# Altium footprint library newComponent0729.PcbLib: 10 footprints
Each footprint in its own frame and in the unit in brackets; x right, y up, seen from the top. Pads: shape width x height; smd on the part's side, far side on the other; paste and mask are expansions set on the pad; w line width, h text height; cw(c..) or ccw(c..) is an arc to the next point about the centre after c.
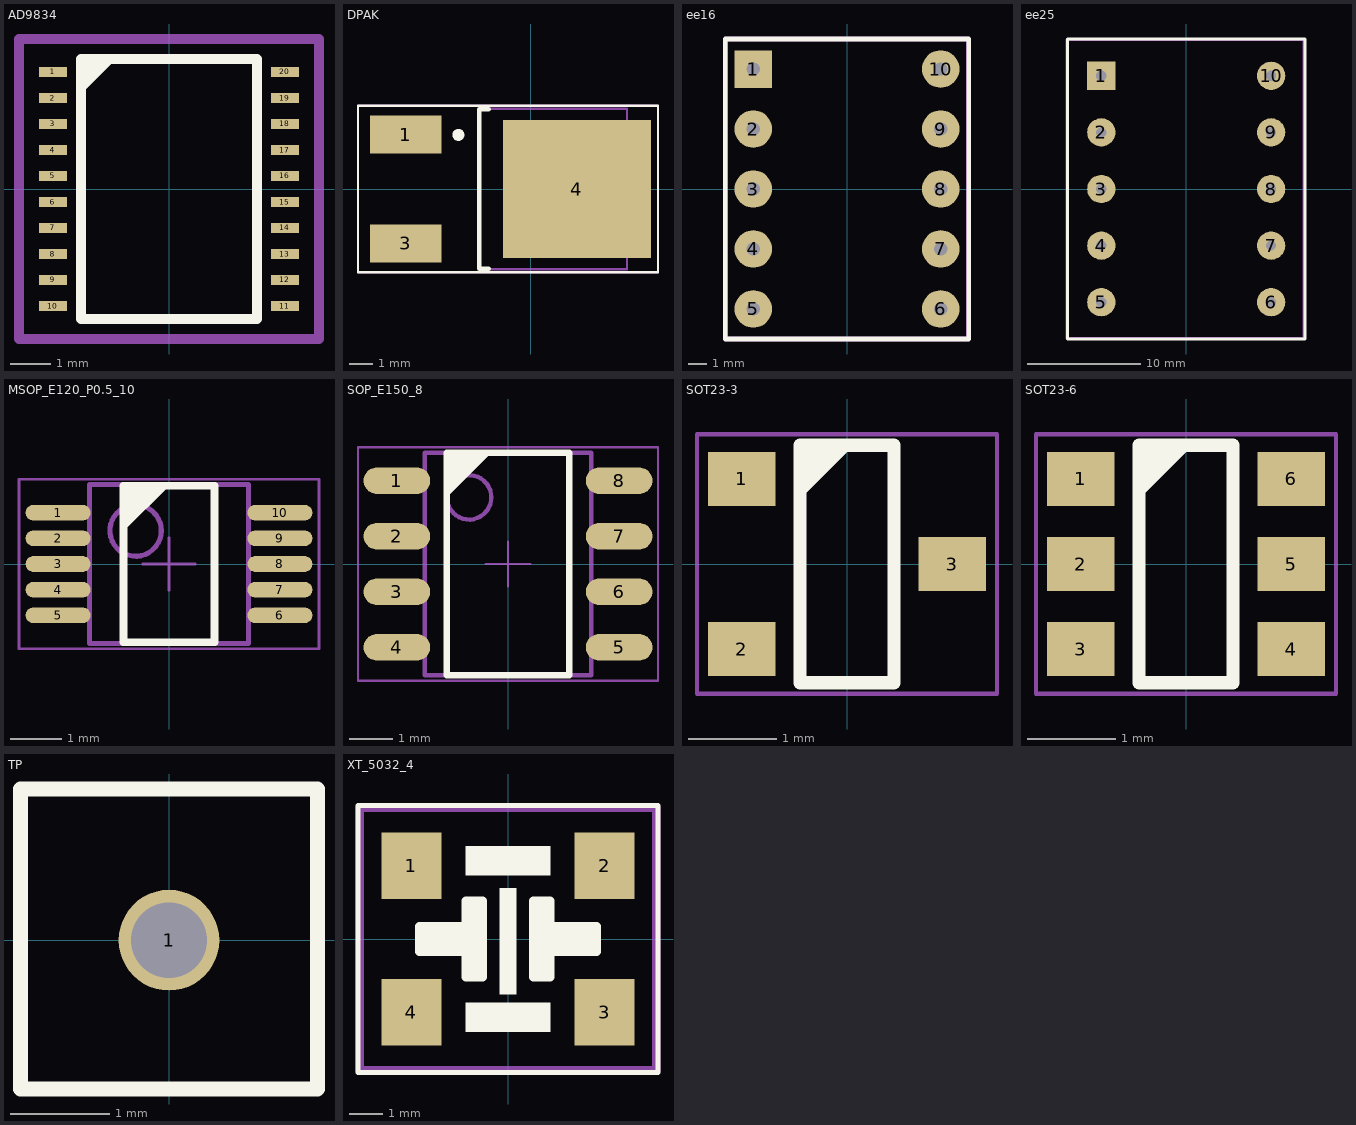
[diagram p0: the footprints below, top view; thin cyan lines are the x and y axes]

## AD9834 [mm]
pads (20):
  rect 0.7x0.25 smd: 1(-2.9,2.925) 2(-2.9,2.275) 3(-2.9,1.625) 4(-2.9,0.975) 5(-2.9,0.325) 6(-2.9,-0.325) 7(-2.9,-0.975) 8(-2.9,-1.625) 9(-2.9,-2.275) 10(-2.9,-2.925) 11(2.9,-2.925) 12(2.9,-2.275) 13(2.9,-1.625) 14(2.9,-0.975) 15(2.9,-0.325) 16(2.9,0.325) 17(2.9,0.975) 18(2.9,1.625) 19(2.9,2.275) 20(2.9,2.925)
Top Overlay:
  region: -2.159,3.175 -1.651,3.175 -2.159,2.667
  lines w0.254: -2.2,2.54 -1.49,3.25 -1.27,3.25 ; -2.2,-3.25 -2.2,3.25 2.2,3.25 2.2,-3.25 -2.2,-3.25
Mechanical 13:
  lines w0.254: -3.75,-3.75 3.75,-3.75 3.75,3.75 -3.75,3.75 -3.75,-3.75

## DPAK [mm]
height 2.39
pads (3):
  rect 3x1.6 smd: 1(-5.23,2.28) 3(-5.23,-2.28)
  rect 6.2x5.8 smd: 4(1.95,0)
Top Overlay:
  circle w0.25: c-3.025,2.27 r0.125
  lines w0.1: -7.24,-3.5 -7.24,3.5 5.35,3.5 5.35,-3.5 -7.24,-3.5
  lines w0.2: -1.75,-3.35 -2.15,-3.35 -2.15,3.35 -1.75,3.35
Mechanical 13:
  lines w0.1: -7.24,-3.5 5.35,-3.5 5.35,3.5 -7.24,3.5 -7.24,-3.5 ; -2.15,-3.375 4.05,-3.375 4.05,3.375 -2.15,3.375 -2.15,-3.375
Mechanical 15:
  lines w0.1: -0.5,0 0.5,0 ; 0,-0.5 0,0.5
3D body: height 2.39, standoff 0, extent -2.15,-3.375 4.05,3.375

## ee16 [mm] "transfor"
pads (10):
  rect 2x2 hole 0.7: 1(-5,6.4)
  round 2 hole 0.7: 2(-5,3.2) 3(-5,0) 4(-5,-3.2) 5(-5,-6.4) 6(5,-6.4) 7(5,-3.2) 8(5,0) 9(5,3.2) 10(5,6.4)
Top Overlay:
  lines w0.254: -6.5,-8 -6.5,8 6.5,8 6.5,-8 -6.5,-8
Mechanical 13:
  lines w0.254: -6.477,-8.001 -6.477,8.001 6.477,8.001 6.477,-8.001 -6.477,-8.001

## ee25 [mm] "transfor"
pads (10):
  rect 2.5x2.5 hole 0.9: 1(-7.5,10)
  round 2.5 hole 0.9: 2(-7.5,5) 3(-7.5,0) 4(-7.5,-5) 5(-7.5,-10) 6(7.5,-10) 7(7.5,-5) 8(7.5,0) 9(7.5,5) 10(7.5,10)
Top Overlay:
  lines w0.254: -10.5,-13.25 10.5,-13.25 10.5,13.25 -10.5,13.25 -10.5,-13.25
Mechanical 13:
  lines w0.254: -10.541,-13.208 10.414,-13.208 10.414,13.208 -10.541,13.208 -10.541,-13.208

## MSOP_E120_P0.5_10 [mil]
height 43.31
pads (10):
  oval 50x12 smd: 1(-85,39.37) 2(-85,19.69) 3(-85,0) 4(-85,-19.68) 5(-85,-39.37) 6(85,-39.37) 7(85,-19.68) 8(85,0) 9(85,19.69) 10(85,39.37)
Top Overlay:
  region: -35,60 0,60 -35,25
  lines w6: -35,-60 35,-60 35,60 -35,60 -35,-60
Mechanical 13:
  circle w3.94: c-25.59,25.59 r19.68
  lines w2: -20,0 20,0 ; 0,-20 0,20
  lines w3.94: -61.02,-61.02 -61.02,61.02 61.02,61.02 61.02,-61.02 -61.02,-61.02
Mechanical 14:
  lines w2: -115,-65 -115,65 115,65 115,-65 -115,-65
3D body: height 45.28, standoff 0, extent -96.45,-59.05 96.47,59.06

## SOP_E150_8 [mil]
height 68.9
pads (8):
  oval 60x24 smd: 1(-100,75) 2(-100,25) 3(-100,-25) 4(-100,-75) 5(100,-75) 6(100,-25) 7(100,25) 8(100,75)
Top Overlay:
  region: -55,100 -15,100 -55,60
  lines w6: -55,-100 -55,100 55,100 55,-100 -55,-100
Mechanical 13:
  circle w4: c-35,60 r20
  lines w2: -20,0 20,0 ; 0,-20 0,20
  lines w4: -75,-100 75,-100 75,100 -75,100 -75,-100
Mechanical 14:
  lines w2: -135,-105 -135,105 135,105 135,-105 -135,-105
3D body: height 68.9, standoff 0, extent -118.1,-96.46 118.11,96.46

## SOT23-3 [mil]
height 39.5
pads (3):
  rect 30x24 smd: 1(-47,38) 2(-47,-38) 3(47,0)
Top Overlay:
  region: -21,53 3,53 -21,29
  lines w6: -21,-53 21,-53 21,53 -21,53 -21,-53
Mechanical 14:
  lines w2: -67,-58 67,-58 67,58 -67,58 -67,-58
3D body: height 51.18, standoff 0, extent -55.11,-57.09 55.12,57.09

## SOT23-6 [mil]
height 62.99
pads (6):
  rect 30x24 smd: 1(-47,38) 2(-47,0) 3(-47,-38) 4(47,-38) 5(47,0) 6(47,38)
Top Overlay:
  region: -21,53 3,53 -21,29
  lines w6: -21,-53 -21,53 21,53 21,-53 -21,-53
Mechanical 14:
  lines w2: -67,-58 -67,58 67,58 67,-58 -67,-58
3D body: height 57.09, standoff 0, extent -55.11,-57.09 55.12,57.09

## TP [mil]
pads (1):
  round 40 hole 30: 1(0,0)
Top Overlay:
  lines w6: -59,-59 59,-59 59,60 -59,60 -59,-59
Mechanical 13:
  lines w2: -59.06,-59.06 -59.06,59.06 59.06,59.06 59.06,-59.06 -59.06,-59.06

## XT_5032_4 [mm]
pads (4):
  rect 1.8x2 smd: 1(-2.9,2.2) 2(2.9,2.2) 3(2.9,-2.2) 4(-2.9,-2.2)
Top Overlay:
  rectangle: -1.27,-2.794 1.27,-1.905
  rectangle: -1.27,1.905 1.27,2.794
  region: 1.27,-1.143 1.27,-0.381 2.667,-0.381 2.667,0.381 1.27,0.381 1.27,1.143 0.762,1.143 0.762,-1.143
  region: -1.27,1.143 -1.27,0.381 -2.667,0.381 -2.667,-0.381 -1.27,-0.381 -1.27,-1.143 -0.762,-1.143 -0.762,1.143
  region: -0.241,1.524 0.241,1.524 0.241,-1.651 -0.241,-1.651
  lines w0.152: -4.5,-4 4.5,-4 4.5,4 -4.5,4 -4.5,-4
  lines w0.254: -2.667,-0.381 -1.27,-0.381 -1.27,-1.143 -0.762,-1.143 -0.762,1.143 -1.27,1.143 -1.27,0.381 -2.667,0.381 -2.667,-0.381 ; 0.762,-1.143 1.27,-1.143 1.27,-0.381 2.667,-0.381 2.667,0.381 1.27,0.381 1.27,1.143 0.762,1.143 0.762,-1.143
Mechanical 13:
  lines w0.254: -4.445,-3.937 -4.445,3.937 4.445,3.937 4.445,-3.937 -4.445,-3.937